# EAGLE library part AD8418 (library AD8418)
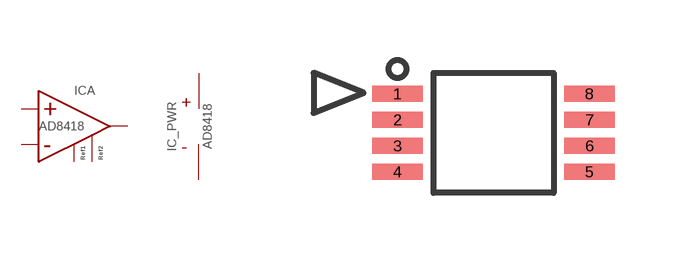
[diagram p0: symbol with the pads of MSOP8; footprint MSOP8]

Designator prefix IC; gates A=AD8418 _PWR=PWR

## AD8418BRMZ (MARK: Y4N; MPN: AD8418BRMZ), AD8418WBRMZ (MARK: Y4M; MPN: AD8418WBRMZ)  [MSOP8]
1  A:INV  in
2  _PWR:V-  pwr
3  A:REF2
5  A:OUT  out
6  _PWR:V+  pwr
7  A:REF1
8  A:NINV  in

## Footprint MSOP8 (pad centres in mm)
smd 1.26 x 0.4: 1 -2.4,0.975; 2 -2.4,0.325; 3 -2.4,-0.325; 4 -2.4,-0.975; 5 2.4,-0.975; 6 2.4,-0.325; 7 2.4,0.325; 8 2.4,0.975